# Altium schematic symbol library ADP1715.SchLib: 1 symbol
Pins are listed as number, name and electrical type; pins without a type are passive.

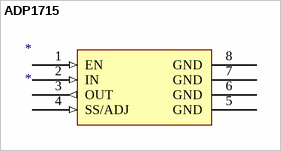
[diagram p0: symbol ADP1715]

## ADP1715
designator *
footprint TSOP65P490X110-8N (TSOP, 8-Leads, Body 3,00x3,00mm, Pitch 0,65mm, IPC Medium Density)
pins: 1 EN (in), 2 IN (in), 3 OUT (out), 4 SS/ADJ (in), 5 GND (power), 6 GND (power), 7 GND (power), 8 GND (power)